# EAGLE library part ATMEGA644RFR2 (library atmel)
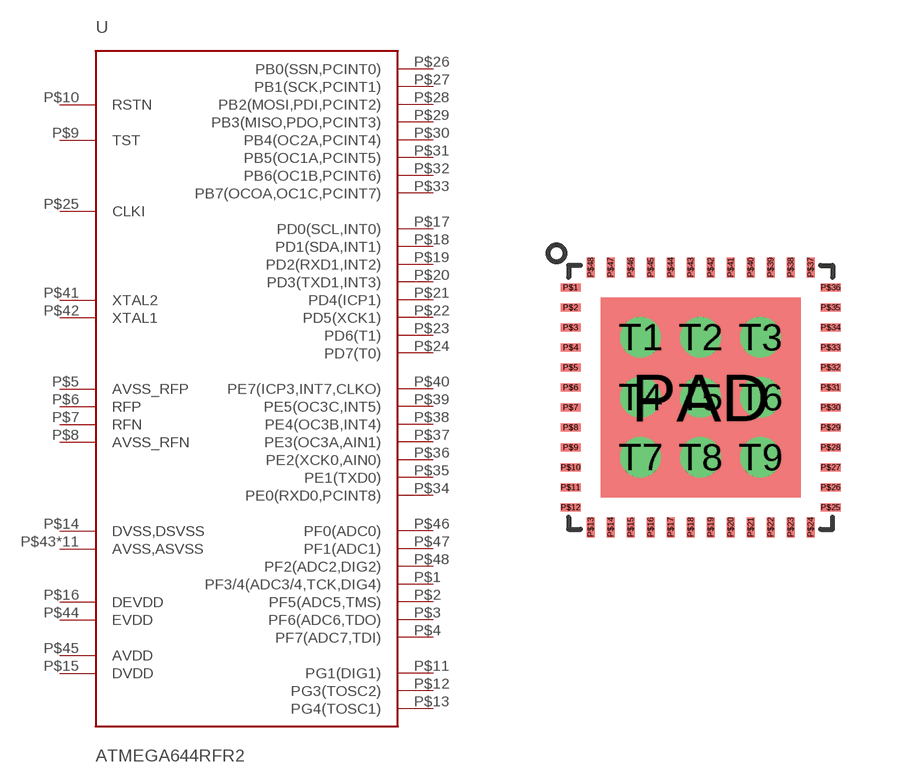
[diagram p90: symbol with the pads of QFN48; footprint QFN48]

Designator prefix -

## ATMEGA644RFR2  [QFN48]
P$1  PF3/4(ADC3/4,TCK,DIG4)
P$2  PF5(ADC5,TMS)
P$3  PF6(ADC6,TDO)
P$4  PF7(ADC7,TDI)
P$5  AVSS_RFP
P$6  RFP
P$7  RFN
P$8  AVSS_RFN
P$9  TST
P$10  RSTN
P$11  PG1(DIG1)
P$12  PG3(TOSC2)
P$13  PG4(TOSC1)
P$14  DVSS,DSVSS
P$15  DVDD
P$16  DEVDD
P$17  PD0(SCL,INT0)
P$18  PD1(SDA,INT1)
P$19  PD2(RXD1,INT2)
P$20  PD3(TXD1,INT3)
P$21  PD4(ICP1)
P$22  PD5(XCK1)
P$23  PD6(T1)
P$24  PD7(T0)
P$25  CLKI
P$26  PB0(SSN,PCINT0)
P$27  PB1(SCK,PCINT1)
P$28  PB2(MOSI,PDI,PCINT2)
P$29  PB3(MISO,PDO,PCINT3)
P$30  PB4(OC2A,PCINT4)
P$31  PB5(OC1A,PCINT5)
P$32  PB6(OC1B,PCINT6)
P$33  PB7(OCOA,OC1C,PCINT7)
P$34  PE0(RXD0,PCINT8)
P$35  PE1(TXD0)
P$36  PE2(XCK0,AIN0)
P$37  PE3(OC3A,AIN1)
P$38  PE4(OC3B,INT4)
P$39  PE5(OC3C,INT5)
P$40  PE7(ICP3,INT7,CLKO)
P$41  XTAL2
P$42  XTAL1
P$43  AVSS,ASVSS
P$44  EVDD
P$45  AVDD
P$46  PF0(ADC0)
P$47  PF1(ADC1)
P$48  PF2(ADC2,DIG2)
PAD  AVSS,ASVSS
T1  AVSS,ASVSS
T2  AVSS,ASVSS
T3  AVSS,ASVSS
T4  AVSS,ASVSS
T5  AVSS,ASVSS
T6  AVSS,ASVSS
T7  AVSS,ASVSS
T8  AVSS,ASVSS
T9  AVSS,ASVSS

## Footprint QFN48 (pad centres in mm)
smd 0.5 x 0.2: P$1 -3.25,2.75; P$2 -3.25,2.25; P$3 -3.25,1.75; P$4 -3.25,1.25; P$5 -3.25,0.75; P$6 -3.25,0.25; P$7 -3.25,-0.25; P$8 -3.25,-0.75; P$9 -3.25,-1.25; P$10 -3.25,-1.75; P$11 -3.25,-2.25; P$12 -3.25,-2.75; P$25 3.25,-2.75; P$26 3.25,-2.25; P$27 3.25,-1.75; P$28 3.25,-1.25; P$29 3.25,-0.75; P$30 3.25,-0.25; P$31 3.25,0.25; P$32 3.25,0.75; P$33 3.25,1.25; P$34 3.25,1.75; P$35 3.25,2.25; P$36 3.25,2.75
smd 0.2 x 0.5: P$13 -2.75,-3.25; P$14 -2.25,-3.25; P$15 -1.75,-3.25; P$16 -1.25,-3.25; P$17 -0.75,-3.25; P$18 -0.25,-3.25; P$19 0.25,-3.25; P$20 0.75,-3.25; P$21 1.25,-3.25; P$22 1.75,-3.25; P$23 2.25,-3.25; P$24 2.75,-3.25; P$37 2.75,3.25; P$38 2.25,3.25; P$39 1.75,3.25; P$40 1.25,3.25; P$41 0.75,3.25; P$42 0.25,3.25; P$43 -0.25,3.25; P$44 -0.75,3.25; P$45 -1.25,3.25; P$46 -1.75,3.25; P$47 -2.25,3.25; P$48 -2.75,3.25
smd 5 x 5: PAD 0,0
drill 0.5: T1 -1.5,1.5; T2 0,1.5; T3 1.5,1.5; T4 -1.5,0; T5 0,0; T6 1.5,0; T7 -1.5,-1.5; T8 0,-1.5; T9 1.5,-1.5